# Altium schematic symbol library Q_P_GSD.SchLib: 1 symbol
Pins are listed as number, name and electrical type; pins without a type are passive.

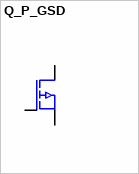
[diagram p0: symbol Q_P_GSD]

## Q_P_GSD
designator Q?
pins: 1 G, 2 S, 3 D